# Altium schematic symbol library ME6206A20M3G.SchLib: 1 symbol
Pins are listed as number, name and electrical type; pins without a type are passive.

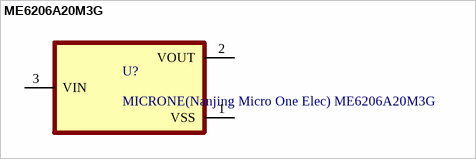
[diagram p0: symbol ME6206A20M3G]

## ME6206A20M3G
designator U?, comment MICRONE(Nanjing Micro One Elec) ME6206A20M3G
2V regulator MICRONE(Nanjing Micro One Elec) ME6206A20M3G; MF: Analog Devices; MP: MAX6006BEUR+T; SnapEDA_Link: https://www.snapeda.com/parts/MAX6006BEUR+T/Analog+Devices/view-part/?ref=snap; Package: SOT-23-3 Maxim Integrated; Value: *; Check_prices: https://www.snapeda.com/parts/MAX6006BEUR+T/Analog+Devices/view-part/?ref=eda
footprint SOT95P237X112-3N
pins: 1 VSS, 2 VOUT, 3 VIN